# EAGLE library part AD8608 (library nonolith)
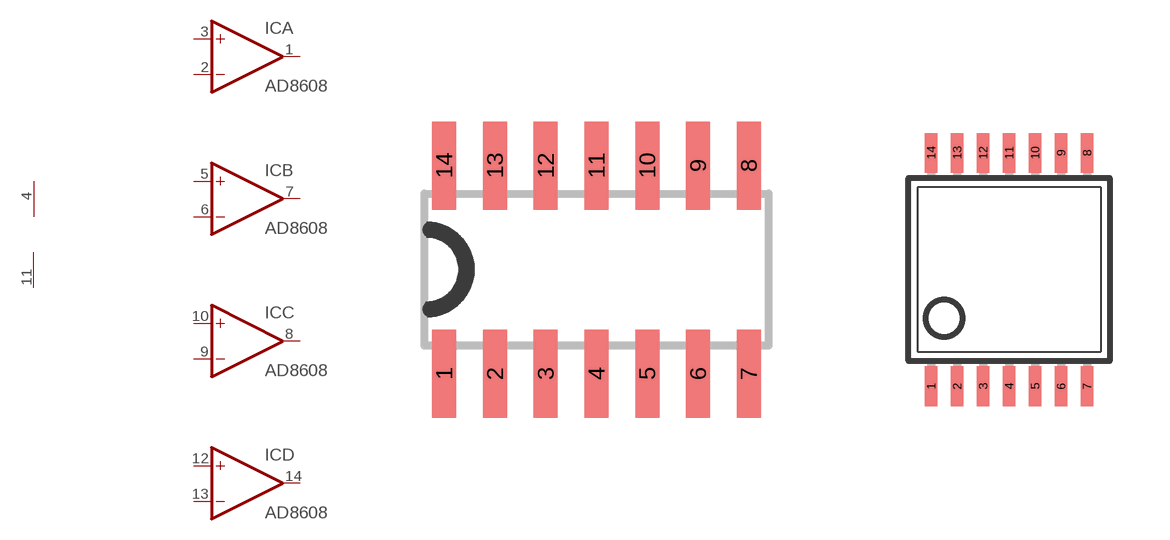
[diagram p15: symbol with the pads of SO-14; footprints SO-14, TSSOP14]

Designator prefix IC; gates A=OPAMP B=OPAMP C=OPAMP D=OPAMP G$1=PWR+-

## AD8608R  [SO-14]
1  A:OUT  out
2  A:-IN  in
3  A:+IN  in
4  G$1:V+  pwr
5  B:+IN  in
6  B:-IN  in
7  B:OUT  out
8  C:OUT  out
9  C:-IN  in
10  C:+IN  in
11  G$1:V-  pwr
12  D:+IN  in
13  D:-IN  in
14  D:OUT  out

## AD8608RU  [TSSOP14]
Pads as for SO-14

## Footprint SO-14 (pad centres in mm)
SO-14
smd 0.6 x 2.2: 1 -3.81,-2.6; 2 -2.54,-2.6; 3 -1.27,-2.6; 4 0,-2.6; 5 1.27,-2.6; 6 2.54,-2.6; 7 3.81,-2.6; 8 3.81,2.6; 9 2.54,2.6; 10 1.27,2.6; 11 0,2.6; 12 -1.27,2.6; 13 -2.54,2.6; 14 -3.81,2.6

## Footprint TSSOP14 (pad centres in mm)
Thin Shrink Small Outline Plastic 14 MAX3223-MAX3243.pdf
smd 0.305 x 0.991: 1 -1.95,-2.918; 2 -1.3,-2.918; 3 -0.65,-2.918; 4 0,-2.918; 5 0.65,-2.918; 6 1.3,-2.918; 7 1.95,-2.918; 8 1.95,2.918; 9 1.3,2.918; 10 0.65,2.918; 11 0,2.918; 12 -0.65,2.918; 13 -1.3,2.918; 14 -1.95,2.918